# Altium footprint library 2318_Métronome_Electronique_Library.PcbLib: 22 footprints (part 1 of 2)
Each footprint in its own frame and in the unit in brackets; x right, y up, seen from the top. Pads: shape width x height; smd on the part's side, far side on the other; paste and mask are expansions set on the pad; w line width, h text height; cw(c..) or ccw(c..) is an arc to the next point about the centre after c.
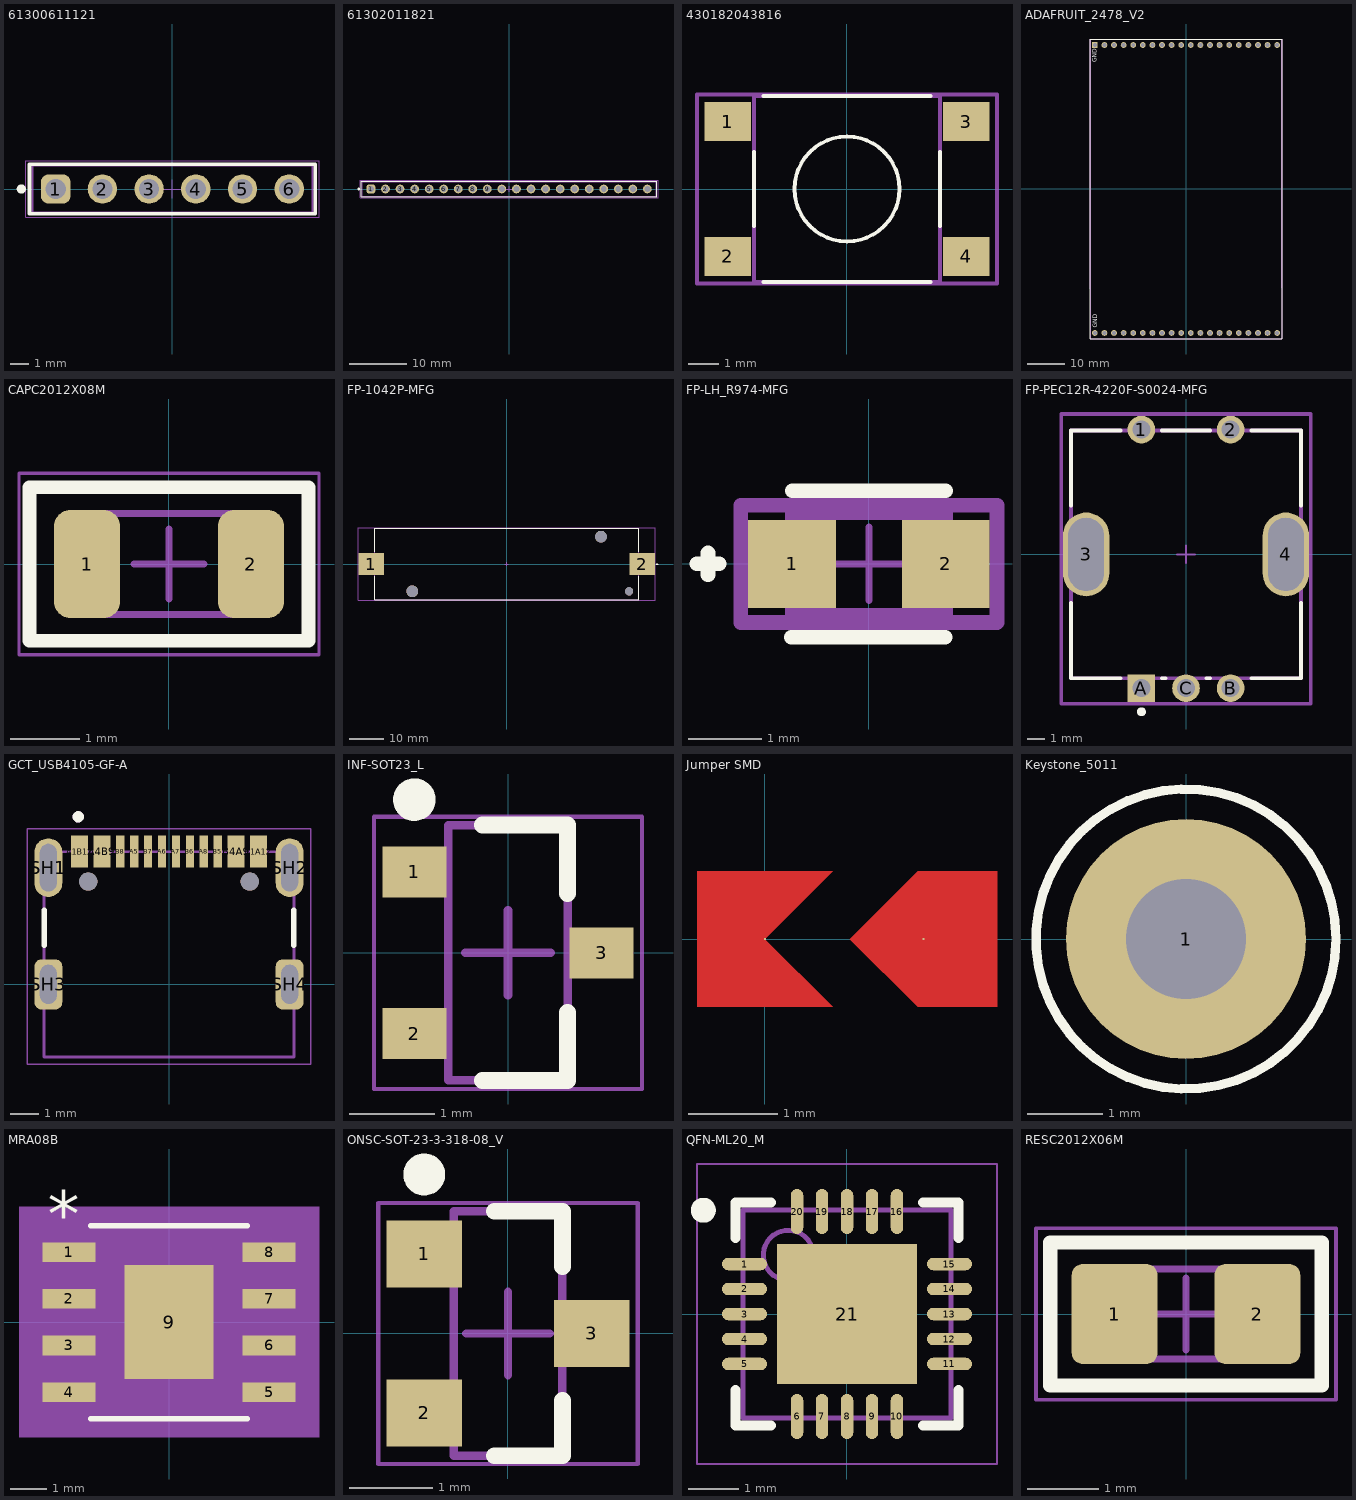
[diagram p0: the footprints below, top view; thin cyan lines are the x and y axes]

## 61300611121 [mm] "Pin Header, pitch 2.54 mm, THT, Vertical, single row, 6p"
height 8.54
pads (6):
  rrect50% 1.6x1.6 hole 1.1: 1(-6.35,0)
  round 1.6 hole 1.1: 2(-3.81,0) 3(-1.27,0) 4(1.27,0) 5(3.81,0) 6(6.35,0)
Top Overlay:
  circle w0.25: c-8.22,0 r0.125
  lines w0.2: -7.77,-1.345 7.77,-1.345 7.77,1.345 -7.77,1.345 -7.77,-1.345
Top Component Center:
  lines w0.05: -0.5,0 0.5,0 ; 0,-0.5 0,0.5
Top Designator:
  text ".Designator" at -7.498,-0.5 h1.5
Top Component Outline:
  lines w0.1: -7.62,-1.27 -7.62,1.27 7.62,1.27 7.62,-1.27 -7.62,-1.27
Top Courtyard:
  lines w0.05: -7.97,-1.545 -7.97,1.545 7.97,1.545 7.97,-1.545 -7.97,-1.545
3D body "61300611121.stp": height 8.57, standoff -2.97, extent -7.62,-1.27 7.62,1.27

## 61302011821 [mm] "Socket Header, Pitch 2.54 mm, THT, Vertical, single row, 20p"
height 8.5
pads (20):
  rrect50% 1.52x1.52 hole 1.02: 1(-24.13,0)
  round 1.52 hole 1.02: 2(-21.59,0) 3(-19.05,0) 4(-16.51,0) 5(-13.97,0) 6(-11.43,0) 7(-8.89,0) 8(-6.35,0) 9(-3.81,0) 10(-1.27,0) 11(1.27,0) 12(3.81,0) 13(6.35,0) 14(8.89,0) 15(11.43,0) 16(13.97,0) 17(16.51,0) 18(19.05,0) 19(21.59,0) 20(24.13,0)
Top Overlay:
  circle w0.25: c-26.26,0 r0.125
  lines w0.2: -25.775,-1.35 -25.775,1.35 25.775,1.35 25.775,-1.35 -25.775,-1.35
Top Component Center:
  lines w0.05: -0.5,0 0.5,0 ; 0,-0.5 0,0.5
Top Designator:
  text ".Designator" at -7.498,-0.5 h1.5
Top Component Outline:
  lines w0.1: -25.65,-1.25 -25.65,1.25 25.65,1.25 25.65,-1.25 -25.65,-1.25
Top Courtyard:
  lines w0.05: -25.975,-1.55 -25.975,1.55 25.975,1.55 25.975,-1.55 -25.975,-1.55
3D body "61302011821.stp": height 8.55, standoff -3.06, extent -25.65,-1.25 25.65,1.25

## 430182043816 [mm] "6*6mm vertical type, SMD, height 4.3mm, black actuator, 160gf, T&R"
height 4.3
pads (4):
  rect 1.55x1.3 smd: 1(-3.975,2.25) 2(-3.975,-2.25) 3(3.975,2.25) 4(3.975,-2.25)
Top Overlay:
  circle w0.127: c0,0 r1.75
  lines w0.127: -3.1,-1.24 -3.1,1.24 ; -2.79,-3.1 2.79,-3.1 ; -2.79,3.1 2.79,3.1 ; 3.1,-1.24 3.1,1.24
Top 3D Body:
  lines w0.127: -3.1,-3.1 3.1,-3.1 3.1,3.1 -3.1,3.1 -3.1,-3.1
Top Courtyard:
  lines w0.127: -5,-3.15 -5,3.15 5,3.15 5,-3.15 -5,-3.15
3D body "4301x20438x6.stp": height 4.29, standoff -0.01, extent -4.5,-3.1 4.5,3.1

## ADAFRUIT_2478_V2 [mm]
pads (40):
  rect 1.53x1.53 / inner round 1.53 / far side rect 1.53x1.53 hole 1.02: 1(-24.13,38.1)
  round 1.53 hole 1.02: 2(-21.59,38.1) 3(-19.05,38.1) 4(-16.51,38.1) 5(-13.97,38.1) 6(-11.43,38.1) 7(-8.89,38.1) 8(-6.35,38.1) 9(-3.81,38.1) 10(-1.27,38.1) 11(1.27,38.1) 12(3.81,38.1) 13(6.35,38.1) 14(8.89,38.1) 15(11.43,38.1) 16(13.97,38.1) 17(16.51,38.1) 18(19.05,38.1) 19(21.59,38.1) 20(24.13,38.1) 21(-24.13,-38.1) 22(-21.59,-38.1) 23(-19.05,-38.1) 24(-16.51,-38.1) 25(-13.97,-38.1) 26(-11.43,-38.1) 27(-8.89,-38.1) 28(-6.35,-38.1) 29(-3.81,-38.1) 30(-1.27,-38.1) 31(1.27,-38.1) 32(3.81,-38.1) 33(6.35,-38.1) 34(8.89,-38.1) 35(11.43,-38.1) 36(13.97,-38.1) 37(16.51,-38.1) 38(19.05,-38.1) 39(21.59,-38.1) 40(24.13,-38.1)
Top Overlay:
  lines w0.127: -25.4,39.7 -25.4,-39.695 25.398,-39.695 ; -25.398,39.698 25.398,39.7 ; 25.4,-39.689 25.4,39.694
  text "GND" at -23.622,33.528 h1.2
  text "GND" at -23.495,-36.703 h1.2
Top 3D Body:
  lines w0.127: -25.4,-26.289 -25.4,39.7 25.397,39.7 25.4,39.697 25.4,-26.289 ; -25.395,-39.696 25.399,-39.694
  text "GND" at -23.622,33.528 h1.2
  text "GND" at -23.495,-36.703 h1.2
Top Courtyard:
  lines w0.05: -25.403,39.697 25.401,39.7 ; -25.4,-39.702 25.391,-39.7 ; -25.4,-39.698 -25.4,39.698 ; 25.4,-39.698 25.4,39.699

## CAPC2012X08M [mm] "Chip Capacitor, 2-Leads, Body 2.00x1.25mm, IPC Low Density"
height 0.85
pads (2):
  rrect50% 0.95x1.55 smd: 1(-1.175,0) 2(1.175,0)
Top Overlay:
  lines w0.2: -2,-1.1 -2,1.1 2,1.1 2,-1.1 -2,-1.1
Top Assembly:
  text ".Comment" at -3.723,-3.089 h1
Bottom 3D Body:
  lines w0.1: -1.1,-0.725 1.1,-0.725 1.1,0.725 -1.1,0.725 -1.1,-0.725
Top Courtyard:
  lines w0.05: -2.15,-1.3 2.15,-1.3 2.15,1.3 -2.15,1.3 -2.15,-1.3
  lines w0.1: -0.5,0 0.5,0 ; 0,-0.5 0,0.5
3D body "CAPC2012X08M.step": height 0.85, standoff 0, extent -1.1,-0.725 1.1,0.725

## FP-1042P-MFG [mil]
pads (5):
  rect 294x255 smd paste+0 mask+0: 1(-1562.5,0) 2(1562.5,0)
  round 135.83 hole 135.83 unplated paste-39370.1 mask+0: ""(-1087.5,-315) ""(1087.5,315)
  round 94 hole 94 unplated paste-39370.1 mask+0: ""(1411.5,-315)
Top Overlay:
  lines w7.87: -1522,-142.13 -1522,-411.5 1522,-411.5 1522,-142.13 ; -1522,142.13 -1522,411.5 1522,411.5 1522,142.13 ; 1725.39,0 1745.08,0 ; 1735.24,-9.84 1735.24,9.84
Top Component Center:
  lines w3.94: -19.68,0 19.68,0 ; 0,-19.68 0,19.68
Top Assembly:
  lines w7.87: -1713.44,-415.44 1713.44,-415.44 1713.44,415.44 -1713.44,415.44 -1713.44,-415.44
  text ".Designator" at 0,-0.02 h39.37
Top 3D Body:
  lines w7.87: -1522,-411.5 1522,-411.5 1522,411.5 -1522,411.5 -1522,-411.5
Top Courtyard:
  lines w7.87: -1713.44,-415.44 1713.44,-415.44 1713.44,415.44 -1713.44,415.44 -1713.44,-415.44
3D body "Batt_Keystone_1042P_eec.STEP": height 594.88, standoff -135, extent -1692.99,-406.54 1693.01,406.5

## FP-LH_R974-MFG [mm]
pads (2):
  rect 1.2x1.2 smd paste+0 mask+0: 1(-1.05,0) 2(1.05,0)
Top Overlay:
  lines w0.2: -2.35,0 -2.05,0 ; -2.2,-0.15 -2.2,0.15 ; -1.061,-1.002 1.039,-1.002 ; -1.05,1 1.05,1
Top Component Center:
  lines w0.1: -0.5,0 0.5,0 ; 0,-0.5 0,0.5
Top Assembly:
  lines w0.2: -1.75,-0.8 -1.75,0.8 1.75,0.8 1.75,-0.8 -1.75,-0.8
  text ".Designator" at 0,-0.001 h1
Top 3D Body:
  lines w0.2: -1.05,-0.7 -1.05,0.7 1.05,0.7 1.05,-0.7 -1.05,-0.7
Top Courtyard:
  lines w0.2: -1.75,-0.8 -1.75,0.8 1.75,0.8 1.75,-0.8 -1.75,-0.8
3D body "Diode_OSRAM_LH_R974-LP-1_eec.STEP": height 0.25, standoff 0, extent -1.75,-0.8 1.75,0.8

## FP-PEC12R-4220F-S0024-MFG [mm]
pads (7):
  round 1.55 hole 1 paste-1000 mask+0: 1(-2.5,7) 2(2.5,7) B(2.5,-7.5) C(0,-7.5)
  rrect100% 2.6x4.7 hole 4.1 slot 2 at 0 deg paste-1000 mask+0: 3(-5.6,0) 4(5.6,0)
  rect 1.55x1.55 hole 1 paste-1000 mask+0: A(-2.5,-7.5)
Top Overlay:
  circle w0.25: c-2.5,-8.825 r0.125
  lines w0.2: -6.45,-2.725 -6.45,-6.95 -3.65,-6.95 ; -6.45,2.725 -6.45,6.95 -3.65,6.95 ; -1.35,-6.95 -1.15,-6.95 ; -1.35,6.95 1.35,6.95 ; 1.15,-6.95 1.35,-6.95 ; 3.65,-6.95 6.45,-6.95 6.45,-2.725 ; 3.65,6.95 6.45,6.95 6.45,2.725
Top Component Center:
  lines w0.1: -0.5,0 0.5,0 ; 0,-0.5 0,0.5
Top Assembly:
  lines w0.2: -7,-8.375 -7,7.875 7,7.875 7,-8.375 -7,-8.375
  text ".Designator" at 0,-0.062 h1
Top 3D Body:
  lines w0.2: -6.45,-6.95 -6.45,6.95 6.45,6.95 6.45,-6.95 -6.45,-6.95
Top Courtyard:
  lines w0.2: -7,-8.375 -7,7.875 7,7.875 7,-8.375 -7,-8.375
3D body "Enc_Bourns_PEC12R-4220F-S0024_eec.STEP": height 0.25, standoff 0, extent -7,-8.375 7,7.875

## GCT_USB4105-GF-A [mm]
height 3.31
pads (18):
  rect 0.6x1.15 smd: A1B12(-3.2,4.755) A4B9(-2.4,4.755) B1A12(3.2,4.755) B4A9(2.4,4.755)
  rect 0.3x1.15 smd: A5(-1.25,4.755) A6(-0.25,4.755) A7(0.25,4.755) A8(1.25,4.755) B5(1.75,4.755) B6(0.75,4.755) B7(-0.75,4.755) B8(-1.75,4.755)
  oval 1x2.1 hole 0.6 slot 1.7 at 90 deg: SH1(-4.32,4.18) SH2(4.32,4.18)
  rrect50% 1x1.8 hole 0.6 slot 1.4 at 90 deg: SH3(-4.32,0) SH4(4.32,0)
  round 0.65 hole 0.65 unplated: ""(-2.89,3.68) ""(2.89,3.68)
Top Overlay:
  circle w0.2: c-3.25,6 r0.1
  lines w0.2: -4.47,1.4 -4.47,2.65 ; 4.47,1.4 4.47,2.65
Top 3D Body:
  circle w0.2: c-3.25,6 r0.1
  lines w0.1: -4.47,-2.6 -4.47,4.75 4.47,4.75 4.47,-2.6 -4.47,-2.6
Top Courtyard:
  lines w0.05: -5.07,-2.85 5.07,-2.85 5.07,5.58 -5.07,5.58 -5.07,-2.85
3D body "step_temp.STEP": height 3.31, standoff -1.1, extent -4.47,-2.6 4.47,5.11

## INF-SOT23_L [mm] "SOT23, 3-Leads, Body 2.9x1.3 mm, Pitch 0.95 mm, IPC High Density"
height 1.1
pads (3):
  rect 0.75x0.6 smd: 1(-1.1,0.95) 2(-1.1,-0.95) 3(1.1,0)
Top Overlay:
  circle w0.25: c-1.1,1.8 r0.125
  lines w0.2: -0.3,-1.5 0.7,-1.5 0.7,-0.7 ; -0.3,1.5 0.7,1.5 0.7,0.7
Top 3D Body:
  lines w0.1: -0.7,-1.5 -0.7,1.5 0.7,1.5 0.7,-1.5 -0.7,-1.5
Top Courtyard:
  lines w0.05: -1.575,-1.6 -1.575,1.6 1.575,1.6 1.575,-1.6 -1.575,-1.6
  lines w0.1: -0.5,0 0.5,0 ; 0,-0.5 0,0.5
3D body: height 1.1, standoff 0.1, extent -0.7,-1.5 0.7,1.5

## Jumper SMD [mil] "Jumper à souder"
pads (2):
  round 1 smd: 1(0,0) 2(70,0)
Top Layer:
  region: 30,-30 0,0 30,30 -30,30 -30,-30
  region: 102.5,30 67.5,30 37.5,0 67.5,-30 102.5,-30

## Keystone_5011 [mm]
height 1.1
pads (1):
  round 3.2 hole 1.6 paste-100: 1(0,0)
Top Overlay:
  circle w0.125: c0,0 r2
Top Assembly:
  text ".Comment" at 1.75,-0.75 h1.2
3D body "TP-Keystone-BLK-5011.stp": height 8.13, standoff -3.1, extent -1.587,-1.587 1.588,1.588

## MRA08B [mil]
pads (9):
  rect 56.78x20.97 smd paste+0 mask+0: 1(-107.39,75) 2(-107.39,25) 3(-107.39,-25) 4(-107.39,-75) 5(107.39,-75) 6(107.39,-25) 7(107.39,25) 8(107.39,75)
  rect 95x122 smd paste-60.5 mask+0: 9(0,0)
Top Overlay:
  lines w6: -84,-103.5 84,-103.5 ; -84,103.5 84,103.5
  text "*" at -129.89,90.97 h50
Top Paste:
  region: 43.56,-3.94 -43.56,-3.94 -43.56,-57.06 43.56,-57.06
  region: 43.56,57.06 -43.56,57.06 -43.56,3.94 43.56,3.94
Mechanical 5:
  region: 160.78,-123.5 -160.78,-123.5 -160.78,123.5 160.78,123.5
Top 3D Body:
  lines w0: -12,98.5 ccw(c0,98.5) 12,98.5
  lines w1: -122,-84.5 -79,-84.5 -79,-65.5 -122,-65.5 -122,-84.5 ; -122,-34.5 -79,-34.5 -79,-15.5 -122,-15.5 -122,-34.5 ; -122,15.5 -79,15.5 -79,34.5 -122,34.5 -122,15.5 ; -122,65.5 -79,65.5 -79,84.5 -122,84.5 -122,65.5 ; -79,-98.5 -79,98.5 79,98.5 79,-98.5 -79,-98.5 ; 79,-84.5 122,-84.5 122,-65.5 79,-65.5 79,-84.5 ; 79,-34.5 122,-34.5 122,-15.5 79,-15.5 79,-34.5 ; 79,15.5 122,15.5 122,34.5 79,34.5 79,15.5 ; 79,65.5 122,65.5 122,84.5 79,84.5 79,65.5
  text "*" at -76.5,45.5 h50
Top Courtyard:
  region: -89,-95.48 -145.78,-95.48 -145.78,95.48 -89,95.48 -89,108.5 89,108.5 89,95.48 145.78,95.48 145.78,-95.48 89,-95.48 89,-108.5 -89,-108.5
  lines w6: -145.78,-95.48 -89,-95.48 -89,-108.5 89,-108.5 89,-95.48 145.78,-95.48 145.78,95.48 89,95.48 89,108.5 -89,108.5 -89,95.48 -145.78,95.48 -145.78,-95.48
3D body "MRA08B.step": height 66.1, standoff 0, extent -122.01,-98.5 122.01,98.5

## ONSC-SOT-23-3-318-08_V [mm] "SOT23, 3-Leads, Body 2.92x1.3mm, Pitch 0.95mm"
height 1.11
pads (3):
  rect 0.9x0.8 smd: 1(-1,0.95) 2(-1,-0.95) 3(1,0)
Top Overlay:
  circle w0.25: c-1,1.9 r0.125
  lines w0.2: -0.165,-1.46 0.65,-1.46 0.65,-0.8 ; -0.165,1.46 0.65,1.46 0.65,0.8
Top 3D Body:
  lines w0.1: -0.65,-1.46 -0.65,1.46 0.65,1.46 0.65,-1.46 -0.65,-1.46
Top Courtyard:
  lines w0.05: -1.55,-1.56 -1.55,1.56 1.55,1.56 1.55,-1.56 -1.55,-1.56
  lines w0.1: -0.5,0 0.5,0 ; 0,-0.5 0,0.5
3D body: height 1.11, standoff 0.01, extent -0.65,-1.46 0.65,1.46

## QFN-ML20_M [mm] "QFN, 20-Leads, Body 4x4mm, Pitch 0.5mm, Thermal Pad 2.8x2.8mm, IPC Low Density"
height 1
pads (21):
  oval 0.9x0.25 smd: 1(-2.05,1) 2(-2.05,0.5) 3(-2.05,0) 4(-2.05,-0.5) 5(-2.05,-1) 11(2.05,-1) 12(2.05,-0.5) 13(2.05,0) 14(2.05,0.5) 15(2.05,1)
  oval 0.25x0.9 smd: 6(-1,-2.05) 7(-0.5,-2.05) 8(0,-2.05) 9(0.5,-2.05) 10(1,-2.05) 16(1,2.05) 17(0.5,2.05) 18(0,2.05) 19(-0.5,2.05) 20(-1,2.05)
  rect 2.8x2.8 smd: 21(0,0)
Top Overlay:
  circle w0.25: c-2.875,2.075 r0.125
  lines w0.2: -2.225,-1.525 -2.225,-2.225 -1.525,-2.225 ; -2.225,1.525 -2.225,2.225 -1.525,2.225 ; 1.525,-2.225 2.225,-2.225 2.225,-1.525 ; 1.525,2.225 2.225,2.225 2.225,1.525
Top 3D Body:
  circle w0.1: c-1.175,1.175 r0.5
  lines w0.1: -2.075,-2.075 2.075,-2.075 2.075,2.075 -2.075,2.075 -2.075,-2.075
Top Courtyard:
  lines w0.05: -3,-3 3,-3 3,3 -3,3 -3,-3
  lines w0.1: -0.5,0 0.5,0 ; 0,-0.5 0,0.5
3D body: height 1, standoff 0, extent -2.075,-2.075 2.075,2.075

## RESC2012X06M [mm] "Chip Resistor, 2-Leads, Body 2.00x1.25mm, IPC Low Density"
height 0.6
pads (2):
  rrect25% 1.2x1.4 smd: 1(-1,0) 2(1,0)
Top Overlay:
  lines w0.2: -1.9,-1 1.9,-1 1.9,1 -1.9,1 -1.9,-1
Top Assembly:
  lines w0.1: -1.05,-0.63 1.05,-0.63 1.05,0.63 -1.05,0.63 -1.05,-0.63
  text ".Comment" at 2.5,-0.65 h1
Top Courtyard:
  lines w0.05: -2.1,-1.2 2.1,-1.2 2.1,1.2 -2.1,1.2 -2.1,-1.2
  lines w0.1: -0.5,0 0.5,0 ; 0,-0.5 0,0.5
3D body "RESC2012X06M.step": height 0.6, standoff 0, extent -1.05,-0.63 1.05,0.63